# Altium schematic symbol library qlib.SchLib: 15 symbols
Pins are listed as number, name and electrical type; pins without a type are passive.

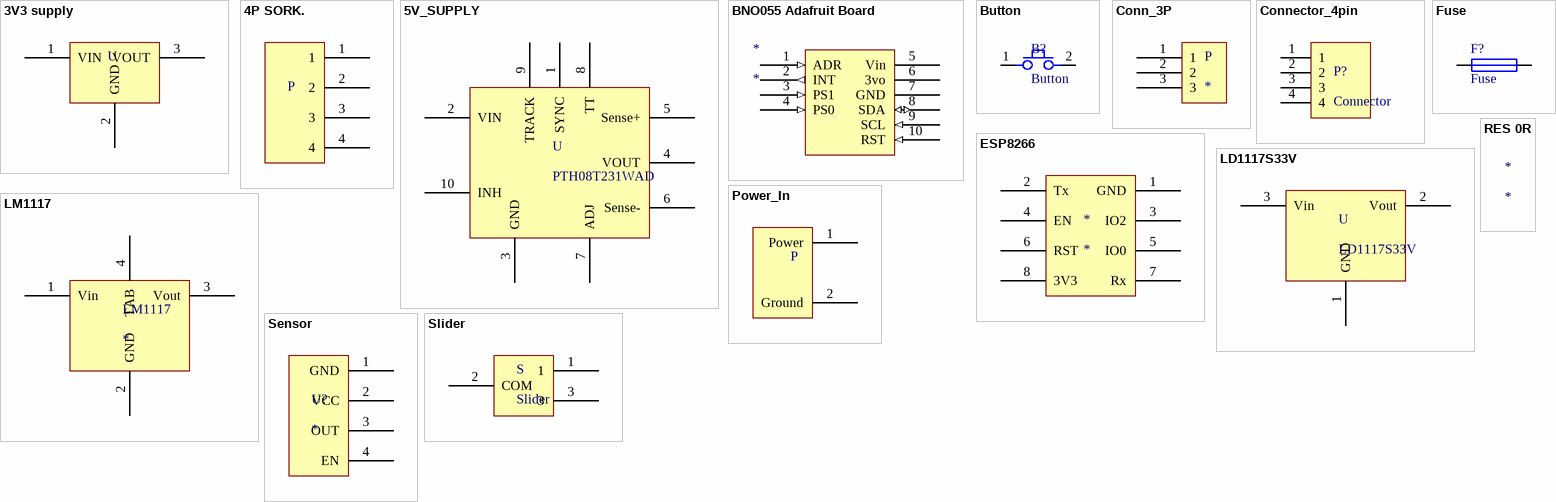
[diagram p0: symbols 3V3 supply to Slider]

## 3V3 supply
designator U
Reference: 2218602; Name: R-78E3.3-0.5 -  Non Isolated POL DC/DC Converter, Innoline, 1 Output, 1.65 W, 3.3 V, 500 mA, Fixed, Through Hole; Supplier: Farnell
footprint 3V3 Supply
pins: 1 VIN, 2 GND, 3 VOUT

## 4P SORK.
designator P  (value not drawn)
footprint 4P SORK
pins: 1, 2, 3, 4

## 5V_SUPPLY
designator U, comment PTH08T231WAD
Reference: 2383162; Name: PTH08T231WAD -  Non Isolated POL DC/DC Converter, 1 Output, 33 W, 5.5 V, 6 A, Adjustable, Through Hole; Supplier: Farnell
footprint 5V SUPPLY
pins: 1 SYNC, 2 VIN, 3 GND, 4 VOUT, 5 Sense+, 6 Sense-, 7 ADJ, 8 TT, 9 TRACK, 10 INH

## BNO055 Adafruit Board
designator *
Name: Adafruit BNO055; Reference: 485-2472; Supplier: Mouser Electronics
footprint ADAFRUIT BNO055; pin to pad 1>ADR 2>INT 3>PS1 4>PS0 5>Vin 6>3vo 7>GND 8>SDA 9>SCL 10>RST
pins: 1 ADR (in), 2 INT (out), 3 PS1 (in), 4 PS0 (in), 5 Vin (power), 6 3vo (power), 7 GND (power), 8 SDA (io), 9 SCL (in), 10 RST (in)

## Button
designator B?
Name: TACT 2.5x 3 2P SPST B3U-1000P (OMR) 2.5x3x1.2mm SMD H=1.2mm 153g; Reference: 45-09-96; Supplier: Lomex
footprint Button
pins: 1, 2

## Conn_3P
designator P
Name: TÁPCSATL. 2.00mm 3P APA 180° NCW200-03S (G-S) FORR.; Supplier: Lomex; Reference: 43-16-04
footprint 3P_CONN_2mm
pins: 1, 2, 3

## Connector_4pin
designator P?, comment Connector
4pin Connector; Name: TÁPCSATL. 2.54mm 4P APA 90° NCW254-04R (G-S) FORR.; Reference: 43-09-96; Supplier: Lomex
footprint FP_CONN4_TAP_254MM_90 (fekvõ két pólusú tápcsatlakozó 2.54mm)
footprint FP_CONN4_TAP_254MM (álló két pólusú tápcsatlakozó 2.54mm)
footprint FP_CONN4_2MM_90 (fekvő 6 pólusú csatlakozó 2mm)
footprint FP_CONN4_2MM_180 (álló 4 pólusú csatlakozó 2mm)
footprint FP_CONN4_LIDAR_2MM_90
pins: 1, 2, 3, 4

## ESP8266
designator *
footprint HDR2X4 (Connector; Header; 4x2 Position)
pins: 1 GND, 2 Tx, 3 IO2, 4 EN, 5 IO0, 6 RST, 7 Rx, 8 3V3

## Fuse
designator F?
Name: Lomex; Reference: 44-03-11; Supplier: Lomex
footprint MULTIFUSE (POLYFUSE Through-Hole)
pins: 1, 2

## LD1117S33V
designator U
Name: LD1117S33TR -  Fixed LDO Voltage Regulator, 4.75V to 15V, 1.1V Dropout, 3.3Vout, 800mAout, SOT-223-3; Reference: 1202826; Supplier: Farnell
footprint FP_SOT223 (SOT223 package, 3 leads)
pins: 1 GND, 2 Vout, 3 Vin

## LM1117
designator LM1117
Name: LM1117MP-3.3 -  Fixed LDO Voltage Regulator, 15V in, 1.2V Dropout, 3.3V/800mA out, SOT-223-3; Reference: 9778195; Supplier: Farnell
footprint SOT223_N (SOT223, 4-Leads, Body 6.5x3.5mm, Pitch 2.3mm, Lead Span 7mm, IPC Medium Density)
pins: 1 Vin, 2 GND, 3 Vout, 4 TAB

## Power_In
designator P
Name: SORKAPOCS 2 P RM3.81 CSAPSORLÉC 90° TLPHC100R-02P (TLM) ZÁRT 10A 150V VDE; Supplier: Lomex; Reference: 43-27-99
footprint SORK.3.81mm
pins: 1 Power, 2 Ground

## RES 0R
designator *

## Sensor
designator U?
Name: TÁPCSATL. 2.00mm 4P APA 180° NCW200-04S (G-S) FORR.; Reference: 43-16-05; Supplier: Lomex
footprint 4P_CONN_2mm
pins: 1 GND, 2 VCC, 3 OUT, 4 EN

## Slider
designator S
Name: Kapcsoló: csúszó; Pozíció:2; SPDT; 2A/250VAC; 5A/28VDC; ON-ON; Reference: 5MS1S102AM2QE; Supplier: TME
footprint Slide
pins: 1, 2 COM, 3